# EAGLE library part LFE5U-25F-6TG144C (library LFE5U-25F-6TG144C)
ECP5 Field Programmable Gate Array (FPGA) IC 98 1032192 24000 144-LQFP 1.045V ~ 1.155V 0C ~ 85C (TJ) Source: Datasheet <https://www.latticesemi.com/Products/FPGAandCPLD/ECP5>
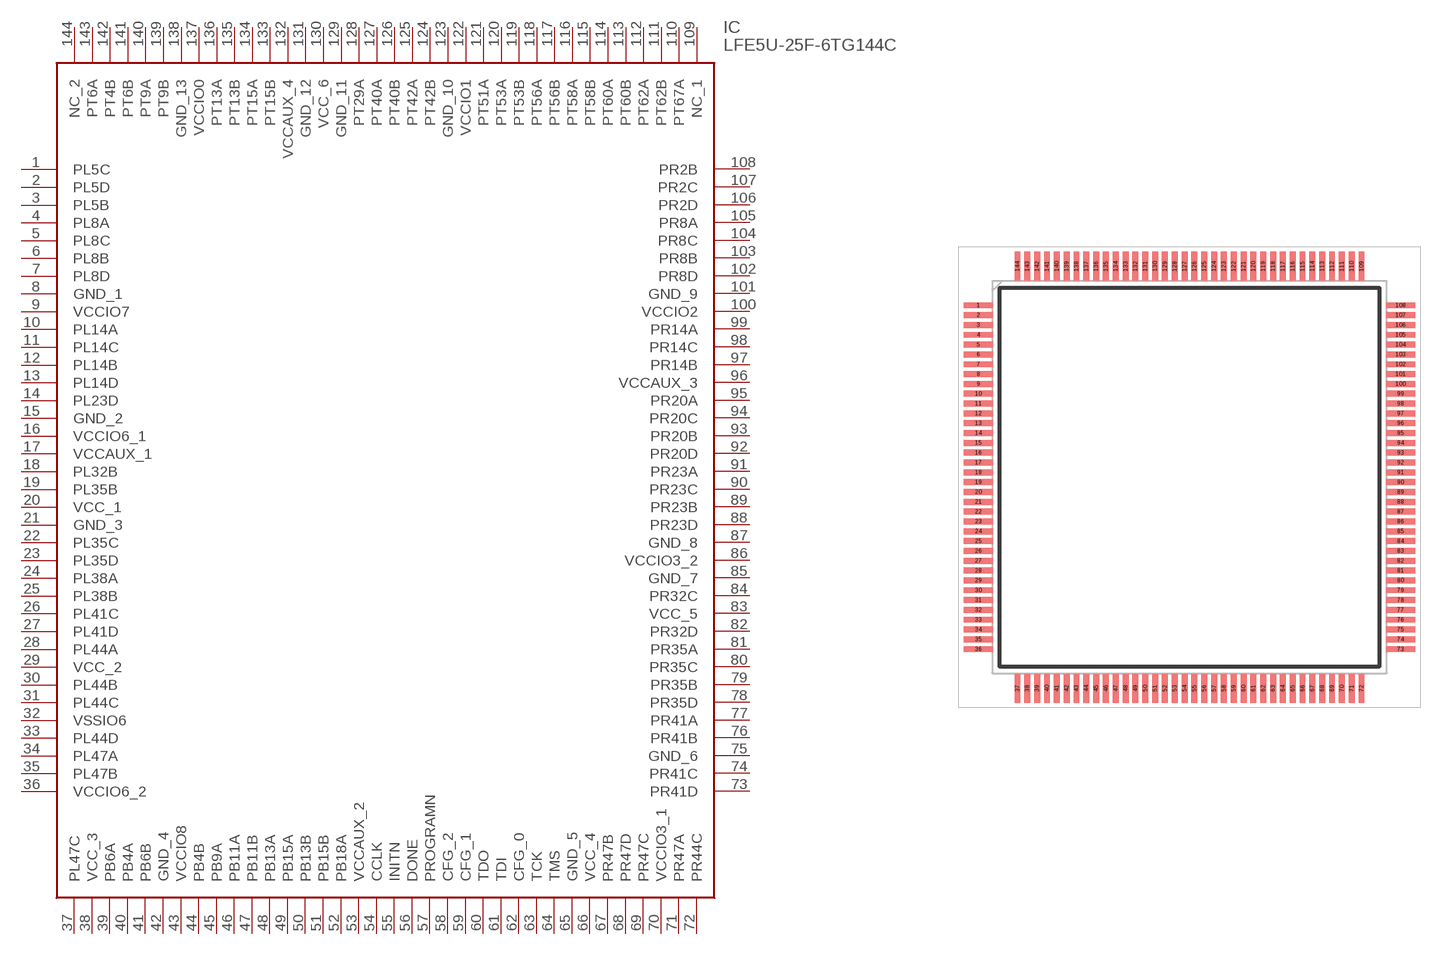
[diagram p0: symbol with the pads of QFP50P2200X2200X160-144N; footprint QFP50P2200X2200X160-144N]

Designator prefix IC

## LFE5U-25F-6TG144C (Description: ECP5 Field Programmable Gate Array (FPGA) IC 98 1032192 24000 144-LQFP 1.045V ~ 1.155V 0C ~ 85C (TJ); Height: 1.6mm; Manufacturer_Name: Lattice Semiconductor; Manufacturer_Part_Number: LFE5U-25F-6TG144C; Mouser_Part_Number: 842-LFE5U25F6TG144C; Mouser_Price-Stock: https://www.mouser.co.uk/ProductDetail/Lattice/LFE5U-25F-6TG144C?qs=TuK3vfAjtkUJ2XBiIF%2F%2FCA%3D%3D)  [QFP50P2200X2200X160-144N]
1  PL5C
2  PL5D
3  PL5B
4  PL8A
5  PL8C
6  PL8B
7  PL8D
8  GND_1
9  VCCIO7
10  PL14A
11  PL14C
12  PL14B
13  PL14D
14  PL23D
15  GND_2
16  VCCIO6_1
17  VCCAUX_1
18  PL32B
19  PL35B
20  VCC_1
21  GND_3
22  PL35C
23  PL35D
24  PL38A
25  PL38B
26  PL41C
27  PL41D
28  PL44A
29  VCC_2
30  PL44B
31  PL44C
32  VSSIO6
33  PL44D
34  PL47A
35  PL47B
36  VCCIO6_2
37  PL47C
38  VCC_3
39  PB6A
40  PB4A
41  PB6B
42  GND_4
43  VCCIO8
44  PB4B
45  PB9A
46  PB11A
47  PB11B
48  PB13A
49  PB15A
50  PB13B
51  PB15B
52  PB18A
53  VCCAUX_2
54  CCLK
55  INITN
56  DONE
57  PROGRAMN
58  CFG_2
59  CFG_1
60  TDO
61  TDI
62  CFG_0
63  TCK
64  TMS
65  GND_5
66  VCC_4
67  PR47B
68  PR47D
69  PR47C
70  VCCIO3_1
71  PR47A
72  PR44C
73  PR41D
74  PR41C
75  GND_6
76  PR41B
77  PR41A
78  PR35D
79  PR35B
80  PR35C
81  PR35A
82  PR32D
83  VCC_5
84  PR32C
85  GND_7
86  VCCIO3_2
87  GND_8
88  PR23D
89  PR23B
90  PR23C
91  PR23A
92  PR20D
93  PR20B
94  PR20C
95  PR20A
96  VCCAUX_3
97  PR14B
98  PR14C
99  PR14A
100  VCCIO2
101  GND_9
102  PR8D
103  PR8B
104  PR8C
105  PR8A
106  PR2D
107  PR2C
108  PR2B
109  NC_1
110  PT67A
111  PT62B
112  PT62A
113  PT60B
114  PT60A
115  PT58B
116  PT58A
117  PT56B
118  PT56A
119  PT53B
120  PT53A
121  PT51A
122  VCCIO1
123  GND_10
124  PT42B
125  PT42A
126  PT40B
127  PT40A
128  PT29A
129  GND_11
130  VCC_6
131  GND_12
132  VCCAUX_4
133  PT15B
134  PT15A
135  PT13B
136  PT13A
137  VCCIO0
138  GND_13
139  PT9B
140  PT9A
141  PT6B
142  PT4B
143  PT6A
144  NC_2

## Footprint QFP50P2200X2200X160-144N (pad centres in mm)
144-Pin LQFP/TQFP
smd 1.475 x 0.3: 1 -10.738,8.75; 2 -10.738,8.25; 3 -10.738,7.75; 4 -10.738,7.25; 5 -10.738,6.75; 6 -10.738,6.25; 7 -10.738,5.75; 8 -10.738,5.25; 9 -10.738,4.75; 10 -10.738,4.25; 11 -10.738,3.75; 12 -10.738,3.25; 13 -10.738,2.75; 14 -10.738,2.25; 15 -10.738,1.75; 16 -10.738,1.25; 17 -10.738,0.75; 18 -10.738,0.25; 19 -10.738,-0.25; 20 -10.738,-0.75; 21 -10.738,-1.25; 22 -10.738,-1.75; 23 -10.738,-2.25; 24 -10.738,-2.75; 25 -10.738,-3.25; 26 -10.738,-3.75; 27 -10.738,-4.25; 28 -10.738,-4.75; 29 -10.738,-5.25; 30 -10.738,-5.75; 31 -10.738,-6.25; 32 -10.738,-6.75; 33 -10.738,-7.25; 34 -10.738,-7.75; 35 -10.738,-8.25; 36 -10.738,-8.75; 73 10.738,-8.75; 74 10.738,-8.25; 75 10.738,-7.75; 76 10.738,-7.25; 77 10.738,-6.75; 78 10.738,-6.25; 79 10.738,-5.75; 80 10.738,-5.25; 81 10.738,-4.75; 82 10.738,-4.25; 83 10.738,-3.75; 84 10.738,-3.25; 85 10.738,-2.75; 86 10.738,-2.25; 87 10.738,-1.75; 88 10.738,-1.25; 89 10.738,-0.75; 90 10.738,-0.25; 91 10.738,0.25; 92 10.738,0.75; 93 10.738,1.25; 94 10.738,1.75; 95 10.738,2.25; 96 10.738,2.75; 97 10.738,3.25; 98 10.738,3.75; 99 10.738,4.25; 100 10.738,4.75; 101 10.738,5.25; 102 10.738,5.75; 103 10.738,6.25; 104 10.738,6.75; 105 10.738,7.25; 106 10.738,7.75; 107 10.738,8.25; 108 10.738,8.75
smd 0.3 x 1.475: 37 -8.75,-10.738; 38 -8.25,-10.738; 39 -7.75,-10.738; 40 -7.25,-10.738; 41 -6.75,-10.738; 42 -6.25,-10.738; 43 -5.75,-10.738; 44 -5.25,-10.738; 45 -4.75,-10.738; 46 -4.25,-10.738; 47 -3.75,-10.738; 48 -3.25,-10.738; 49 -2.75,-10.738; 50 -2.25,-10.738; 51 -1.75,-10.738; 52 -1.25,-10.738; 53 -0.75,-10.738; 54 -0.25,-10.738; 55 0.25,-10.738; 56 0.75,-10.738; 57 1.25,-10.738; 58 1.75,-10.738; 59 2.25,-10.738; 60 2.75,-10.738; 61 3.25,-10.738; 62 3.75,-10.738; 63 4.25,-10.738; 64 4.75,-10.738; 65 5.25,-10.738; 66 5.75,-10.738; 67 6.25,-10.738; 68 6.75,-10.738; 69 7.25,-10.738; 70 7.75,-10.738; 71 8.25,-10.738; 72 8.75,-10.738; 109 8.75,10.738; 110 8.25,10.738; 111 7.75,10.738; 112 7.25,10.738; 113 6.75,10.738; 114 6.25,10.738; 115 5.75,10.738; 116 5.25,10.738; 117 4.75,10.738; 118 4.25,10.738; 119 3.75,10.738; 120 3.25,10.738; 121 2.75,10.738; 122 2.25,10.738; 123 1.75,10.738; 124 1.25,10.738; 125 0.75,10.738; 126 0.25,10.738; 127 -0.25,10.738; 128 -0.75,10.738; 129 -1.25,10.738; 130 -1.75,10.738; 131 -2.25,10.738; 132 -2.75,10.738; 133 -3.25,10.738; 134 -3.75,10.738; 135 -4.25,10.738; 136 -4.75,10.738; 137 -5.25,10.738; 138 -5.75,10.738; 139 -6.25,10.738; 140 -6.75,10.738; 141 -7.25,10.738; 142 -7.75,10.738; 143 -8.25,10.738; 144 -8.75,10.738